# EAGLE library part 74AC11008D (library EW_IC_74_Logic)
XSpice 2input AND gate. Category: Gates Manufacturer: Generic
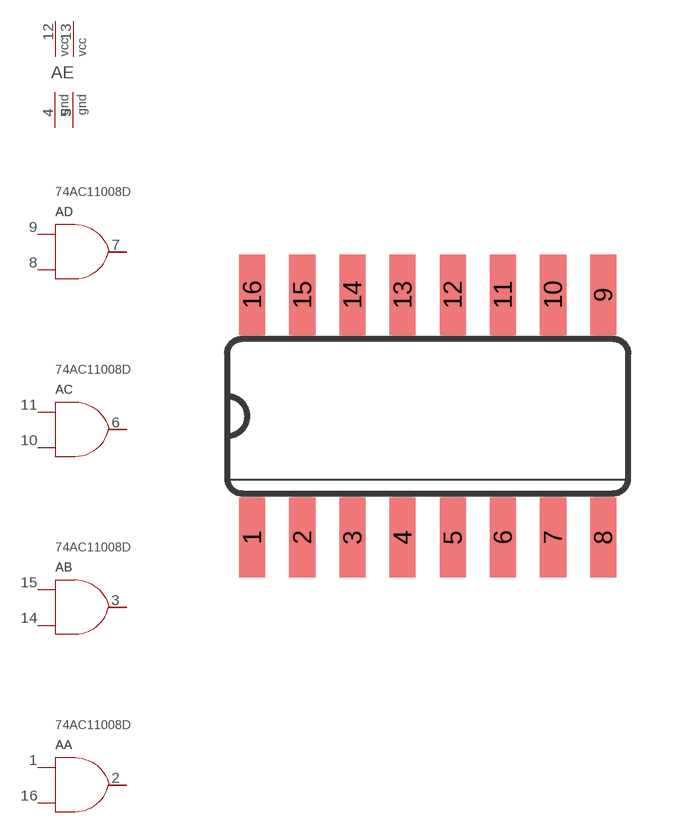
[diagram p369: symbol with the pads of SO16; footprint SO16]

Designator prefix A; gates A=AND_2 B=AND_2 C=AND_2 D=AND_2 E=2PWR2GND_1

## 74AC11008D  [SO16]
1  A:A  pwr
2  A:Y  pwr
3  B:Y  pwr
4  E:GND  pwr
5  E:GND  pwr
6  C:Y  pwr
7  D:Y  pwr
8  D:B  pwr
9  D:A  pwr
10  C:B  pwr
11  C:A  pwr
12  E:VCC  pwr
13  E:VCC  pwr
14  B:B  pwr
15  B:A  pwr
16  A:B  pwr

## Footprint SO16 (pad centres in mm)
Small Outline package 150 mil
smd 0.66 x 2.032: 1 -4.445,-3.073; 2 -3.175,-3.073; 3 -1.905,-3.073; 4 -0.635,-3.073; 5 0.635,-3.073; 6 1.905,-3.073; 7 3.175,-3.073; 8 4.445,-3.073; 9 4.445,3.073; 10 3.175,3.073; 11 1.905,3.073; 12 0.635,3.073; 13 -0.635,3.073; 14 -1.905,3.073; 15 -3.175,3.073; 16 -4.445,3.073